# Altium schematic symbol library AltiumDesigner.SchLib: 2 symbols
Pins are listed as number, name and electrical type; pins without a type are passive.

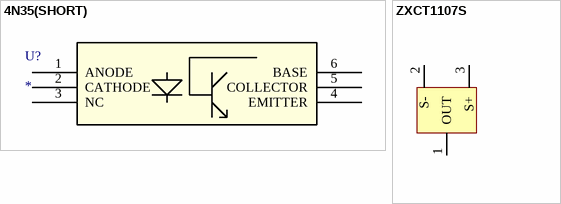
[diagram p0: symbols 4N35(SHORT) to ZXCT1107S]

## 4N35(SHORT)
designator U?
Imported; Manufacturer_Part_Number: 4N35(SHORT); Vendor: Toshiba; Built_By: EMA_UL_Team; C: Copyright (C) 2015 Accelerated Designs. All rights reserved; Value: Value; Type: Type; RefDes: RefDes
footprint 11-7A8
pins: 1 ANODE, 2 CATHODE, 3 NC, 4 EMITTER, 5 COLLECTOR, 6 BASE

## ZXCT1107S
designator Q?, comment Current sense amplifier  (value not drawn)
footprint ZXCT1107S (SOT23, 3-Leads, Body 2,90x2,40mm, Pitch 0,90mm, IPC Medium Density)
pins: 1 OUT, 2 S-, 3 S+